# EAGLE library part 20PIN_CONN (library 00_PF_Nordic)
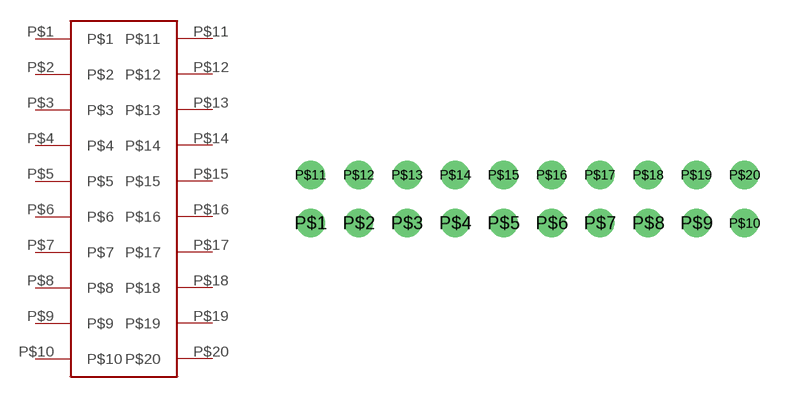
[diagram p3: symbol with the pads of 20PIN_CONN; footprint 20PIN_CONN]

Designator prefix -

## 20PIN_CONN  [20PIN_CONN]
P$1  P$1
P$2  P$2
P$3  P$3
P$4  P$4
P$5  P$5
P$6  P$6
P$7  P$7
P$8  P$8
P$9  P$9
P$10  P$10
P$11  P$11
P$12  P$12
P$13  P$13
P$14  P$14
P$15  P$15
P$16  P$16
P$17  P$17
P$18  P$18
P$19  P$19
P$20  P$20

## Footprint 20PIN_CONN (pad centres in mm)
drill 1 pad 1.5: P$1 -11.43,-1.27; P$2 -8.89,-1.27; P$3 -6.35,-1.27; P$4 -3.81,-1.27; P$5 -1.27,-1.27; P$6 1.27,-1.27; P$7 3.81,-1.27; P$8 6.35,-1.27; P$9 8.89,-1.27; P$10 11.43,-1.27; P$11 -11.43,1.27; P$12 -8.89,1.27; P$13 -6.35,1.27; P$14 -3.81,1.27; P$15 -1.27,1.27; P$16 1.27,1.27; P$17 3.81,1.27; P$18 6.35,1.27; P$19 8.89,1.27; P$20 11.43,1.27